# EAGLE library part M54564FP (library IC)
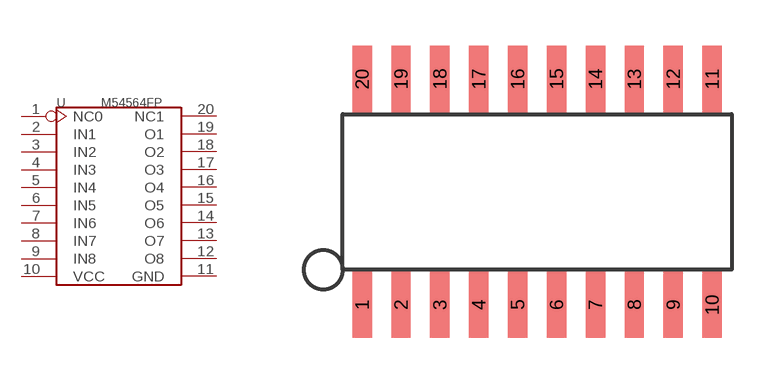
[diagram p70: symbol with the pads of SOP20; footprint SOP20]

Designator prefix U

## M54564FP  [SOP20]
1  NC0
2  IN1
3  IN2
4  IN3
5  IN4
6  IN5
7  IN6
8  IN7
9  IN8
10  VCC
11  GND
12  O8
13  O7
14  O6
15  O5
16  O4
17  O3
18  O2
19  O1
20  NC1

## Footprint SOP20 (pad centres in mm)
SMALL OUTLINE PACKAGE
smd 0.635 x 2.159: 1 -5.715,-3.683; 2 -4.445,-3.683; 3 -3.175,-3.683; 4 -1.905,-3.683; 5 -0.635,-3.683; 6 0.635,-3.683; 7 1.905,-3.683; 8 3.175,-3.683; 9 4.445,-3.683; 10 5.715,-3.683; 11 5.715,3.683; 12 4.445,3.683; 13 3.175,3.683; 14 1.905,3.683; 15 0.635,3.683; 16 -0.635,3.683; 17 -1.905,3.683; 18 -3.175,3.683; 19 -4.445,3.683; 20 -5.715,3.683